# Altium footprint library PCB_LIB.PcbLib: 86 footprints (part 4 of 6)
Each footprint in its own frame and in the unit in brackets; x right, y up, seen from the top. Pads: shape width x height; smd on the part's side, far side on the other; paste and mask are expansions set on the pad; w line width, h text height; cw(c..) or ccw(c..) is an arc to the next point about the centre after c.
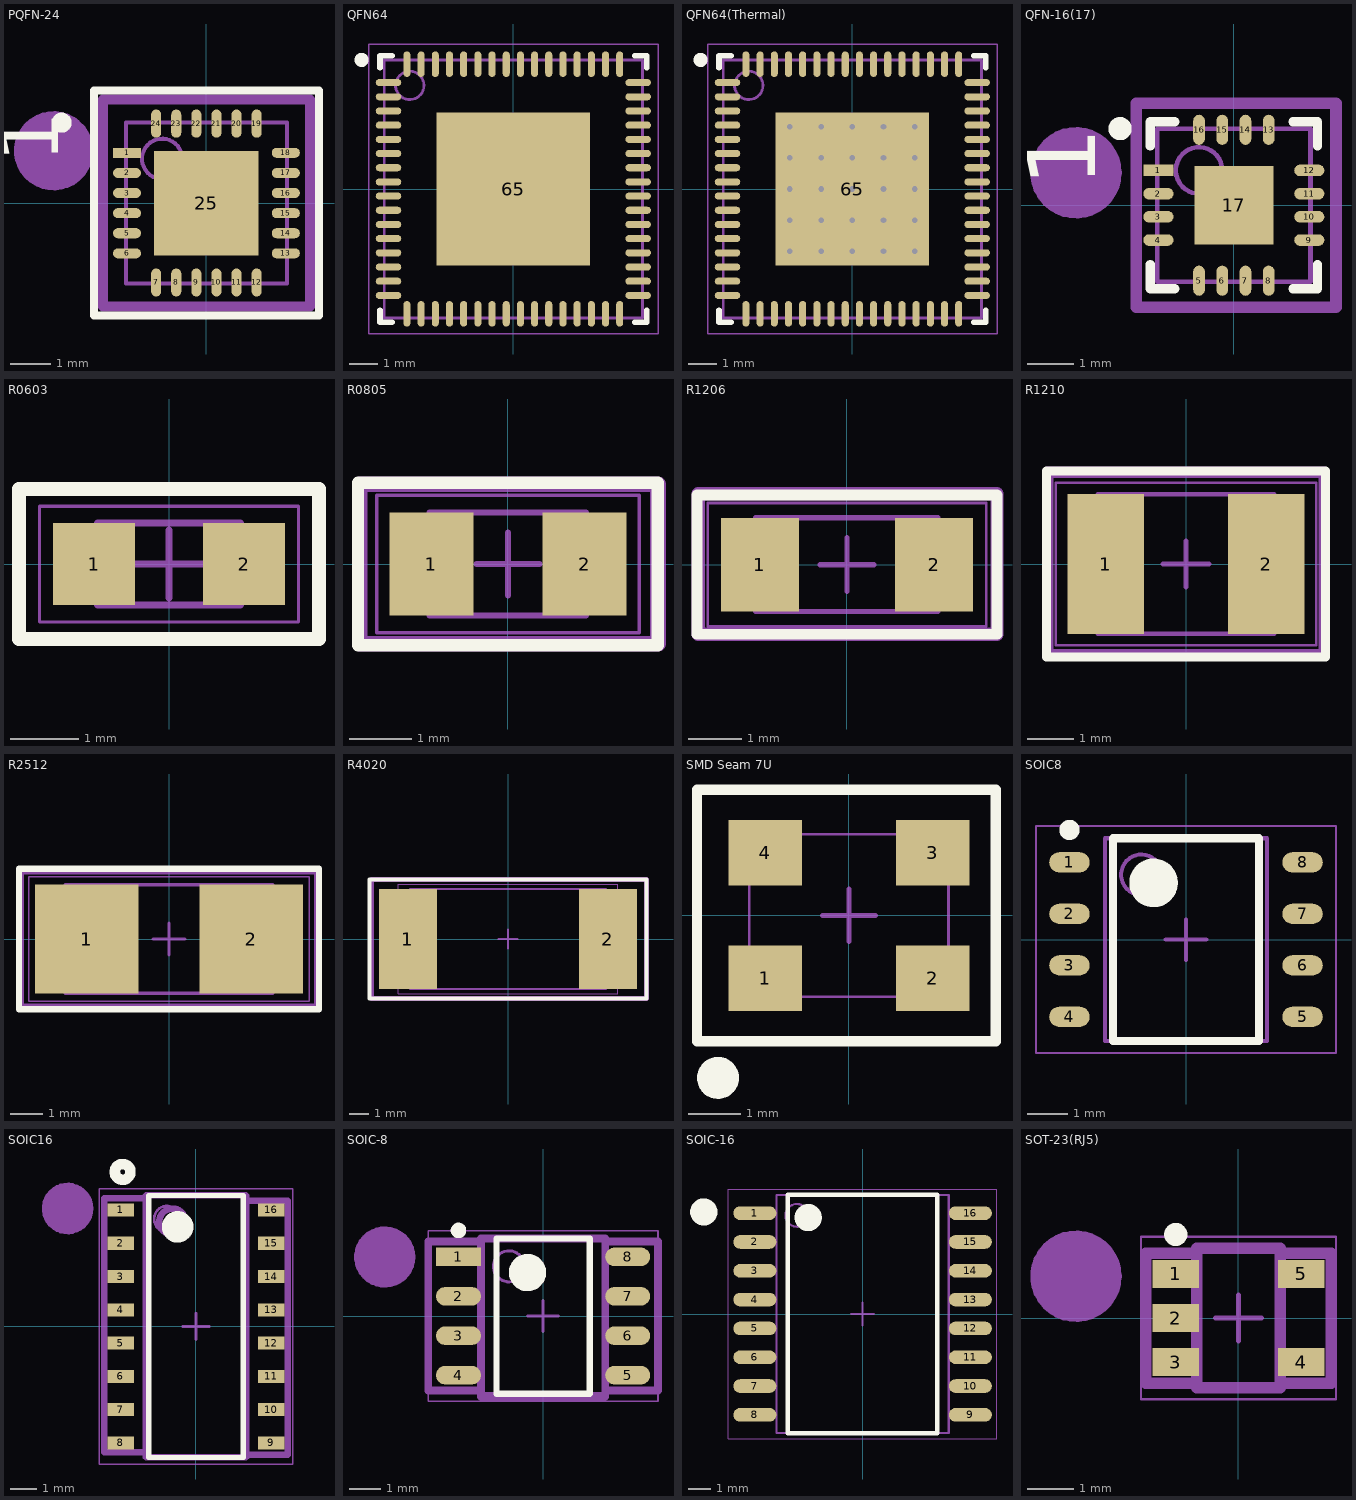
[diagram p3: the footprints below, top view; thin cyan lines are the x and y axes]

## PQFN-24 [mm] "QFN, 24-Leads, Body 4,00x4,00mm, Pitch 0,50mm, Thermal Pad 2,60x2,60mm, IPC Medium Density"
height 1
pads (25):
  rect 0.7x0.25 smd: 1(-1.975,1.25)
  oval 0.7x0.25 smd: 2(-1.975,0.75) 3(-1.975,0.25) 4(-1.975,-0.25) 5(-1.975,-0.75) 6(-1.975,-1.25) 13(1.975,-1.25) 14(1.975,-0.75) 15(1.975,-0.25) 16(1.975,0.25) 17(1.975,0.75) 18(1.975,1.25)
  oval 0.25x0.7 smd: 7(-1.25,-1.975) 8(-0.75,-1.975) 9(-0.25,-1.975) 10(0.25,-1.975) 11(0.75,-1.975) 12(1.25,-1.975) 19(1.25,1.975) 20(0.75,1.975) 21(0.25,1.975) 22(-0.25,1.975) 23(-0.75,1.975) 24(-1.25,1.975)
  rect 2.6x2.6 smd: 25(0,0)
Top Overlay:
  circle w0.25: c-3.6,2 r0.125
  lines w0.2: -2.8,-2.8 -2.8,2.8 2.8,2.8 2.8,-2.8 -2.8,-2.8
  text "1" at -3.2,1 h2.5
Top Sborka:
  circle w0.25: c-3.8,1.3 r0.704
  circle w0.25: c-3.8,1.3 r0.292
  circle w0.25: c-3.8,1.3 r0.861
  circle w0.25: c-3.8,1.3 r0.506
  circle w0.25: c-3.8,1.3 r0.09
  circle w0.6: c-3.8,1.3 r0.3
  circle w0.8: c-3.8,1.3 r0.4
  lines w0.25: -2.575,-2.575 2.575,-2.575 2.575,2.575 -2.575,2.575 -2.575,-2.575
Mechanical 13:
  circle w0.1: c-1.1,1.1 r0.5
  lines w0.1: -2,-2 -2,2 2,2 2,-2 -2,-2
Mechanical 15:
  lines w0.05: -2.575,-2.575 -2.575,2.575 2.575,2.575 2.575,-2.575 -2.575,-2.575
  lines w0.1: -0.5,0 0.5,0 ; 0,-0.5 0,0.5
Top Designator (Mech16):
  text ".Designator" at -5.15,-0.547 h2.5
3D body "PQFN-24.step": height 1, standoff 0, extent -2,-2 2,2

## QFN64 [mm] "QFN, 64-Leads, Body 9,00x9,00mm, Pitch 0,50mm, Thermal Pad 5,40x5,40mm, IPC Medium Density"
height 1
pads (65):
  oval 0.9x0.25 smd: 1(-4.4,3.75) 2(-4.4,3.25) 3(-4.4,2.75) 4(-4.4,2.25) 5(-4.4,1.75) 6(-4.4,1.25) 7(-4.4,0.75) 8(-4.4,0.25) 9(-4.4,-0.25) 10(-4.4,-0.75) 11(-4.4,-1.25) 12(-4.4,-1.75) 13(-4.4,-2.25) 14(-4.4,-2.75) 15(-4.4,-3.25) 16(-4.4,-3.75) 33(4.4,-3.75) 34(4.4,-3.25) 35(4.4,-2.75) 36(4.4,-2.25) 37(4.4,-1.75) 38(4.4,-1.25) 39(4.4,-0.75) 40(4.4,-0.25) 41(4.4,0.25) 42(4.4,0.75) 43(4.4,1.25) 44(4.4,1.75) 45(4.4,2.25) 46(4.4,2.75) 47(4.4,3.25) 48(4.4,3.75)
  oval 0.25x0.9 smd: 17(-3.75,-4.4) 18(-3.25,-4.4) 19(-2.75,-4.4) 20(-2.25,-4.4) 21(-1.75,-4.4) 22(-1.25,-4.4) 23(-0.75,-4.4) 24(-0.25,-4.4) 25(0.25,-4.4) 26(0.75,-4.4) 27(1.25,-4.4) 28(1.75,-4.4) 29(2.25,-4.4) 30(2.75,-4.4) 31(3.25,-4.4) 32(3.75,-4.4) 49(3.75,4.4) 50(3.25,4.4) 51(2.75,4.4) 52(2.25,4.4) 53(1.75,4.4) 54(1.25,4.4) 55(0.75,4.4) 56(0.25,4.4) 57(-0.25,4.4) 58(-0.75,4.4) 59(-1.25,4.4) 60(-1.75,4.4) 61(-2.25,4.4) 62(-2.75,4.4) 63(-3.25,4.4) 64(-3.75,4.4)
  rect 5.4x5.4 smd: 65(0,0)
Top Overlay:
  circle w0.25: c-5.35,4.55 r0.125
  lines w0.2: -4.7,-4.275 -4.7,-4.7 -4.275,-4.7 ; -4.7,4.275 -4.7,4.7 -4.275,4.7 ; 4.275,-4.7 4.7,-4.7 4.7,-4.275 ; 4.275,4.7 4.7,4.7 4.7,4.275
Top Sborka:
  circle w0.1: c-3.65,3.65 r0.5
  lines w0.1: -4.55,-4.55 4.55,-4.55 4.55,4.55 -4.55,4.55 -4.55,-4.55
Mechanical 15:
  lines w0.05: -5.1,-5.1 5.1,-5.1 5.1,5.1 -5.1,5.1 -5.1,-5.1
  lines w0.1: -0.5,0 0.5,0 ; 0,-0.5 0,0.5
3D body "QFN64.step": height 1, standoff 0, extent -4.57,-4.57 4.57,4.57

## QFN64(Thermal) [mm] "QFN, 64-Leads, Body 9,00x9,00mm, Pitch 0,50mm, Thermal Pad 5,40x5,40mm, IPC Medium Density"
height 1
pads (65):
  oval 0.9x0.25 smd: 1(-4.4,3.75) 2(-4.4,3.25) 3(-4.4,2.75) 4(-4.4,2.25) 5(-4.4,1.75) 6(-4.4,1.25) 7(-4.4,0.75) 8(-4.4,0.25) 9(-4.4,-0.25) 10(-4.4,-0.75) 11(-4.4,-1.25) 12(-4.4,-1.75) 13(-4.4,-2.25) 14(-4.4,-2.75) 15(-4.4,-3.25) 16(-4.4,-3.75) 33(4.4,-3.75) 34(4.4,-3.25) 35(4.4,-2.75) 36(4.4,-2.25) 37(4.4,-1.75) 38(4.4,-1.25) 39(4.4,-0.75) 40(4.4,-0.25) 41(4.4,0.25) 42(4.4,0.75) 43(4.4,1.25) 44(4.4,1.75) 45(4.4,2.25) 46(4.4,2.75) 47(4.4,3.25) 48(4.4,3.75)
  oval 0.25x0.9 smd: 17(-3.75,-4.4) 18(-3.25,-4.4) 19(-2.75,-4.4) 20(-2.25,-4.4) 21(-1.75,-4.4) 22(-1.25,-4.4) 23(-0.75,-4.4) 24(-0.25,-4.4) 25(0.25,-4.4) 26(0.75,-4.4) 27(1.25,-4.4) 28(1.75,-4.4) 29(2.25,-4.4) 30(2.75,-4.4) 31(3.25,-4.4) 32(3.75,-4.4) 49(3.75,4.4) 50(3.25,4.4) 51(2.75,4.4) 52(2.25,4.4) 53(1.75,4.4) 54(1.25,4.4) 55(0.75,4.4) 56(0.25,4.4) 57(-0.25,4.4) 58(-0.75,4.4) 59(-1.25,4.4) 60(-1.75,4.4) 61(-2.25,4.4) 62(-2.75,4.4) 63(-3.25,4.4) 64(-3.75,4.4)
  rect 5.4x5.4 smd: 65(0,0)
via 2.2,-2.2 diameter 0.5 hole 0.2
via 1.1,-2.2 diameter 0.5 hole 0.2
via 0,-2.2 diameter 0.5 hole 0.2
via -1.1,-2.2 diameter 0.5 hole 0.2
via -2.2,-2.2 diameter 0.5 hole 0.2
via 2.2,-1.1 diameter 0.5 hole 0.2
via 1.1,-1.1 diameter 0.5 hole 0.2
via 0,-1.1 diameter 0.5 hole 0.2
via -1.1,-1.1 diameter 0.5 hole 0.2
via -2.2,-1.1 diameter 0.5 hole 0.2
via 2.2,0 diameter 0.5 hole 0.2
via 1.1,0 diameter 0.5 hole 0.2
via 0,0 diameter 0.5 hole 0.2
via -1.1,0 diameter 0.5 hole 0.2
via -2.2,0 diameter 0.5 hole 0.2
via 2.2,1.1 diameter 0.5 hole 0.2
via 1.1,1.1 diameter 0.5 hole 0.2
via 0,1.1 diameter 0.5 hole 0.2
via -1.1,1.1 diameter 0.5 hole 0.2
via -2.2,1.1 diameter 0.5 hole 0.2
via 2.2,2.2 diameter 0.5 hole 0.2
via 1.1,2.2 diameter 0.5 hole 0.2
via 0,2.2 diameter 0.5 hole 0.2
via -1.1,2.2 diameter 0.5 hole 0.2
via -2.2,2.2 diameter 0.5 hole 0.2
Top Overlay:
  circle w0.25: c-5.35,4.55 r0.125
  lines w0.2: -4.7,-4.275 -4.7,-4.7 -4.275,-4.7 ; -4.7,4.275 -4.7,4.7 -4.275,4.7 ; 4.275,-4.7 4.7,-4.7 4.7,-4.275 ; 4.275,4.7 4.7,4.7 4.7,4.275
Top Sborka:
  circle w0.1: c-3.65,3.65 r0.5
  lines w0.1: -4.55,-4.55 4.55,-4.55 4.55,4.55 -4.55,4.55 -4.55,-4.55
Mechanical 15:
  lines w0.05: -5.1,-5.1 5.1,-5.1 5.1,5.1 -5.1,5.1 -5.1,-5.1
  lines w0.1: -0.5,0 0.5,0 ; 0,-0.5 0,0.5
3D body "QFN64.step": height 1, standoff 0, extent -4.57,-4.57 4.57,4.57

## QFN-16(17) [mm] "QFN, 16-Leads, Body 3,20x3,20mm, Pitch 0,50mm, Thermal Pad 1,70x1,70mm, IPC Medium Density"
height 1.25
pads (17):
  rect 0.65x0.25 smd: 1(-1.625,0.75)
  oval 0.65x0.25 smd: 2(-1.625,0.25) 3(-1.625,-0.25) 4(-1.625,-0.75) 9(1.625,-0.75) 10(1.625,-0.25) 11(1.625,0.25) 12(1.625,0.75)
  oval 0.25x0.65 smd: 5(-0.75,-1.625) 6(-0.25,-1.625) 7(0.25,-1.625) 8(0.75,-1.625) 13(0.75,1.625) 14(0.25,1.625) 15(-0.25,1.625) 16(-0.75,1.625)
  rect 1.7x1.7 smd: 17(0,0)
Top Overlay:
  circle w0.25: c-2.45,1.65 r0.125
  lines w0.2: -1.8,-1.275 -1.8,-1.8 -1.275,-1.8 ; -1.8,1.275 -1.8,1.8 -1.275,1.8 ; 1.275,-1.8 1.8,-1.8 1.8,-1.275 ; 1.275,1.8 1.8,1.8 1.8,1.275
  text "1" at -2.5,0.4 h2.5
Top Sborka:
  circle w0.25: c-3.4,0.7 r0.704
  circle w0.25: c-3.4,0.7 r0.292
  circle w0.25: c-3.4,0.7 r0.861
  circle w0.25: c-3.4,0.7 r0.506
  circle w0.25: c-3.4,0.7 r0.09
  circle w0.6: c-3.4,0.7 r0.3
  circle w0.8: c-3.4,0.7 r0.4
  lines w0.25: -2.1,-2.2 2.2,-2.2 2.2,2.2 -2.1,2.2 -2.1,-2.2
Mechanical 13:
  circle w0.1: c-0.75,0.75 r0.5
  lines w0.1: -1.65,-1.65 1.65,-1.65 1.65,1.65 -1.65,1.65 -1.65,-1.65
Mechanical 15:
  lines w0.05: -2.2,-2.2 2.2,-2.2 2.2,2.2 -2.2,2.2 -2.2,-2.2
  lines w0.1: -0.5,0 0.5,0 ; 0,-0.5 0,0.5
Top Designator (Mech16):
  text ".Designator" at -6.18,-0.547 h2.5
3D body "QFN-16(17).step": height 1.25, standoff 0, extent -1.651,-1.651 1.651,1.651

## R0603 [mm] "Chip Resistor, 2-Leads, Body 1,60x0,80mm, IPC Medium Density"
height 0.55
pads (2):
  rect 1.2x1.2 smd: 1(-1.1,0) 2(1.1,0)
Top Overlay:
  lines w0.2: -2.2,-1.1 2.2,-1.1 2.2,1.1 -2.2,1.1 -2.2,-1.1
Top Sborka:
  lines w0.1: -2.2,-1.1 2.2,-1.1 2.2,1.1 -2.2,1.1 -2.2,-1.1
Mechanical 13:
  lines w0.1: -1.05,-0.6 -1.05,0.6 1.05,0.6 1.05,-0.6 -1.05,-0.6
Mechanical 15:
  lines w0.05: -1.9,-0.85 1.9,-0.85 1.9,0.85 -1.9,0.85 -1.9,-0.85
  lines w0.1: -0.5,0 0.5,0 ; 0,-0.5 0,0.5
Top Designator (Mech16):
  text ".Designator" at -5.15,-0.547 h2.5
3D body "C0603.step": height 0.8, standoff 0, extent -1.05,-0.6 1.05,0.6

## R0805 [mm]
height 0.6
pads (2):
  rect 1.35x1.65 smd: 1(-1.225,0) 2(1.225,0)
Top Overlay:
  lines w0.2: -2.4,-1.3 2.4,-1.3 2.4,1.3 -2.4,1.3 -2.4,-1.3
Top Sborka:
  lines w0.25: -2.375,-1.275 2.4,-1.275 2.4,1.275 -2.375,1.275 -2.375,-1.275
Mechanical 13:
  lines w0.1: -1.25,-0.825 1.25,-0.825 1.25,0.825 -1.25,0.825 -1.25,-0.825
Mechanical 15:
  lines w0.05: -2.1,-1.1 -2.1,1.1 2.1,1.1 2.1,-1.1 -2.1,-1.1
  lines w0.1: -0.5,0 0.5,0 ; 0,-0.5 0,0.5
Top Designator (Mech16):
  text ".Designator" at -5.15,-0.547 h2.5
3D body "C0805.step": height 1, standoff 0, extent -1.25,-0.825 1.25,0.825

## R1206 [mm]
height 0.8
pads (2):
  rect 1.45x1.75 smd: 1(-1.625,0) 2(1.625,0)
Top Overlay:
  lines w0.2: -2.8,-1.3 2.8,-1.3 2.8,1.3 -2.8,1.3 -2.8,-1.3
Top Sborka:
  lines w0.25: -2.775,-1.3 2.8,-1.3 2.8,1.325 -2.775,1.325 -2.775,-1.3
Mechanical 13:
  lines w0.1: -1.7,-0.875 1.7,-0.875 1.7,0.875 -1.7,0.875 -1.7,-0.875
Mechanical 15:
  lines w0.05: -2.6,-1.15 -2.6,1.15 2.6,1.15 2.6,-1.15 -2.6,-1.15
  lines w0.1: -0.5,0 0.5,0 ; 0,-0.5 0,0.5
Top Designator (Mech16):
  text ".Designator" at -5.15,-0.547 h2.5
3D body: height 0.8, standoff 0, extent 1.3,-0.875 1.7,0.875
3D body: height 0.8, standoff 0, extent -1.7,-0.875 -1.3,0.875
3D body: height 0.8, standoff 0, extent -1.3,-0.875 1.3,0.875

## R1210 [mm]
height 0.8
pads (2):
  rect 1.65x3 smd: 1(-1.725,0) 2(1.725,0)
Top Overlay:
  lines w0.2: -3,-2 3,-2 3,2 -3,2 -3,-2
Top Sborka:
  lines w0.25: -2.975,-1.95 2.975,-1.95 2.975,1.975 -2.975,1.975 -2.975,-1.95
Mechanical 13:
  lines w0.1: -1.9,-1.5 1.9,-1.5 1.9,1.5 -1.9,1.5 -1.9,-1.5
Mechanical 15:
  lines w0.05: -2.8,-1.75 2.8,-1.75 2.8,1.75 -2.8,1.75 -2.8,-1.75
  lines w0.1: -0.5,0 0.5,0 ; 0,-0.5 0,0.5
Top Designator (Mech16):
  text ".Designator" at -5.15,-0.547 h2.5
3D body "C1210.step": height 1.75, standoff 0, extent -1.9,-1.5 1.9,1.5

## R2512 [mm]
height 0.85
pads (2):
  rect 3.25x3.4 smd: 1(-2.575,0) 2(2.575,0)
Top Overlay:
  lines w0.2: -4.7,-2.2 4.7,-2.2 4.7,2.2 -4.7,2.2 -4.7,-2.2
Top Sborka:
  lines w0.25: -4.675,-2.15 4.675,-2.15 4.675,2.15 -4.675,2.15 -4.675,-2.15
Mechanical 13:
  lines w0.1: -3.25,-1.7 -3.25,1.7 3.25,1.7 3.25,-1.7 -3.25,-1.7
Mechanical 15:
  lines w0.05: -4.4,-1.95 -4.4,1.95 4.4,1.95 4.4,-1.95 -4.4,-1.95
  lines w0.1: -0.5,0 0.5,0 ; 0,-0.5 0,0.5
Top Designator (Mech16):
  text ".Designator" at -5.15,-0.547 h2.5
3D body "R2512.step": height 0.85, standoff 0, extent -3.25,-1.7 3.25,1.7

## R4020 [mm] "Chip Resistor, 2-Leads, Body 10,00x5,00mm, IPC Medium Density"
height 0.8
pads (2):
  rect 3x5.2 smd: 1(-5.2,0) 2(5.2,0)
Top Overlay:
  lines w0.2: -7.2,-3.1 7.2,-3.1 7.2,3.1 -7.2,3.1 -7.2,-3.1
Top Sborka:
  lines w0.25: -7.1,-3.1 7.2,-3.1 7.2,3.1 -7.1,3.1 -7.1,-3.1
Mechanical 13:
  lines w0.1: -5.1,-2.6 5.1,-2.6 5.1,2.6 -5.1,2.6 -5.1,-2.6
Mechanical 15:
  lines w0.05: -5.7,-2.85 5.7,-2.85 5.7,2.85 -5.7,2.85 -5.7,-2.85
  lines w0.1: -0.5,0 0.5,0 ; 0,-0.5 0,0.5
Top Designator (Mech16):
  text ".Designator" at -5.137,-0.547 h2.5
3D body "R4020.step": height 0.8, standoff 0, extent -5.1,-2.6 5.1,2.6

## SMD Seam 7U [mm] "DFN, 4-Leads, Body 2,50x3,20mm, Pitch 2,50mm, IPC Medium Density"
height 0.8
pads (4):
  rect 1.4x1.25 smd: 1(-1.6,-1.2) 2(1.6,-1.2) 3(1.6,1.2) 4(-1.6,1.2)
Top Overlay:
  circle w0.4: c-2.5,-3.1 r0.2
  lines w0.2: -2.9,-2.4 2.8,-2.4 2.8,2.4 -2.9,2.4 -2.9,-2.4
Top Sborka:
  lines w0.1: -2.9,-2.4 2.825,-2.4 2.825,2.4 -2.9,2.4 -2.9,-2.4
Mechanical 15:
  lines w0.05: -1.9,-1.55 1.9,-1.55 1.9,1.55 -1.9,1.55 -1.9,-1.55
  lines w0.1: -0.5,0 0.5,0 ; 0,-0.5 0,0.5
Top Designator (Mech16):
  text ".Designator" at -5.15,-0.547 h2.5
3D body "KSE-7U16000MAB143ZA3.stp": height 0.8, standoff 0, extent -1.6,-1.25 1.6,1.25

## SOIC8 [mm] "SOIC, 8-Leads, Body 4,88x3,91mm, Pitch 1,27mm, IPC Medium Density"
height 3.18
pads (8):
  oval 1x0.5 smd: 1(-2.875,1.905) 2(-2.875,0.635) 3(-2.875,-0.635) 4(-2.875,-1.905) 5(2.875,-1.905) 6(2.875,-0.635) 7(2.875,0.635) 8(2.875,1.905)
Top Overlay:
  circle w0.25: c-2.875,2.705 r0.125
  circle w0.6: c-0.8,1.4 r0.3
  lines w0.2: -1.8,-2.5 -1.8,2.5 1.8,2.5 1.8,-2.5 -1.8,-2.5
Mechanical 13:
  circle w0.1: c-1.1,1.6 r0.5
  lines w0.1: -2,-2.5 -2,2.5 2,2.5 2,-2.5 -2,-2.5
Mechanical 15:
  lines w0.05: -3.7,-2.8 -3.7,2.8 3.7,2.8 3.7,-2.8 -3.7,-2.8
  lines w0.1: -0.5,0 0.5,0 ; 0,-0.5 0,0.5
Top Designator (Mech16):
  text ".Designator" at -5.15,-0.482 h2.5
3D body "SOIC8.step": height 3.18, standoff 0, extent -3,-2.5 3,2.5

## SOIC16 [mm] "SOIC, 16-Leads, Body 9,90x3,90mm, Pitch 1,27mm, IPC Medium Density"
height 1.75
pads (16):
  rect 1x0.5 smd: 1(-2.875,4.445) 2(-2.875,3.175) 3(-2.875,1.905) 4(-2.875,0.635) 5(-2.875,-0.635) 6(-2.875,-1.905) 7(-2.875,-3.175) 8(-2.875,-4.445) 9(2.875,-4.445) 10(2.875,-3.175) 11(2.875,-1.905) 12(2.875,-0.635) 13(2.875,0.635) 14(2.875,1.905) 15(2.875,3.175) 16(2.875,4.445)
Top Overlay:
  circle w0.4: c-2.8,5.9 r0.3
  circle w0.6: c-0.7,3.8 r0.3
  lines w0.2: -1.8,-5 -1.8,5 1.8,5 1.8,-5 -1.8,-5
Top Sborka:
  circle w0.8: c-4.9,4.5 r0.4
  circle w0.25: c-0.9,4 r0.5
  circle w0.6: c-4.9,4.5 r0.3
  circle w0.25: c-4.9,4.5 r0.09
  circle w0.25: c-4.9,4.5 r0.506
  circle w0.25: c-4.9,4.5 r0.861
  circle w0.25: c-4.9,4.5 r0.292
  circle w0.25: c-4.9,4.5 r0.704
  lines w0.25: -3.5,-4.8 -1.9,-4.8 -1.9,4.9 -3.5,4.9 -3.5,-4.8 ; -1.9,-5 1.9,-5 1.9,5 -1.9,5 -1.9,-5 ; 1.9,-4.9 3.5,-4.9 3.5,4.8 1.9,4.8 1.9,-4.9
Mechanical 13:
  circle w0.1: c-1.1,4.1 r0.5
  lines w0.1: -2,-5 -2,5 2,5 2,-5 -2,-5
Mechanical 15:
  lines w0.05: -3.7,-5.25 -3.7,5.25 3.7,5.25 3.7,-5.25 -3.7,-5.25
  lines w0.1: -0.5,0 0.5,0 ; 0,-0.5 0,0.5
Top Designator (Mech16):
  text ".Designator" at -5.15,-0.547 h2.5
3D body "SOIC16.step": height 1.75, standoff 0, extent -2.9,-5 2.9,5

## SOIC-8 [mm] "SOIC, 8-Leads, Body 4,90x3,90mm, Pitch 1,27mm, IPC Medium Density"
height 1.75
pads (8):
  rect 1.45x0.6 smd: 1(-2.725,1.905)
  oval 1.45x0.6 smd: 2(-2.725,0.635) 3(-2.725,-0.635) 4(-2.725,-1.905) 5(2.725,-1.905) 6(2.725,-0.635) 7(2.725,0.635) 8(2.725,1.905)
Top Overlay:
  circle w0.6: c-0.5,1.4 r0.3
  circle w0.25: c-2.725,2.755 r0.125
  lines w0.2: -1.5,-2.5 1.5,-2.5 1.5,2.5 -1.5,2.5 -1.5,-2.5
Top Sborka:
  circle w0.8: c-5.1,1.9 r0.4
  circle w0.6: c-5.1,1.9 r0.3
  circle w0.25: c-5.1,1.9 r0.09
  circle w0.25: c-5.1,1.9 r0.506
  circle w0.25: c-5.1,1.9 r0.861
  circle w0.25: c-5.1,1.9 r0.292
  circle w0.25: c-5.1,1.9 r0.704
  lines w0.25: -3.7,-2.4 -2,-2.4 -2,2.4 -3.7,2.4 -3.7,-2.4 ; -2,-2.6 2,-2.6 2,2.5 -2,2.5 -2,-2.6 ; 2,-2.4 3.7,-2.4 3.7,2.4 2,2.4 2,-2.4
Mechanical 13:
  circle w0.1: c-1.1,1.6 r0.5
  lines w0.1: -2,-2.5 2,-2.5 2,2.5 -2,2.5 -2,-2.5
Mechanical 15:
  lines w0.05: -3.7,-2.75 3.7,-2.75 3.7,2.75 -3.7,2.75 -3.7,-2.75
  lines w0.1: -0.5,0 0.5,0 ; 0,-0.5 0,0.5
Top Designator (Mech16):
  text ".Designator" at -5.15,-0.547 h2.5
3D body "SOIC-8.step": height 1.75, standoff 0, extent -3,-2.5 3,2.5

## SOIC-16 [mm] "SOIC, 16-Leads, Body 10,30x7,50mm, Pitch 1,27mm, IPC Medium Density"
height 2.65
pads (16):
  oval 1.9x0.6 smd: 1(-4.75,4.445) 2(-4.75,3.175) 3(-4.75,1.905) 4(-4.75,0.635) 5(-4.75,-0.635) 6(-4.75,-1.905) 7(-4.75,-3.175) 8(-4.75,-4.445) 9(4.75,-4.445) 10(4.75,-3.175) 11(4.75,-1.905) 12(4.75,-0.635) 13(4.75,0.635) 14(4.75,1.905) 15(4.75,3.175) 16(4.75,4.445)
Top Overlay:
  circle w0.6: c-7,4.5 r0.3
  circle w0.6: c-2.4,4.25 r0.3
  lines w0.2: -3.3,-5.25 3.3,-5.25 3.3,5.25 -3.3,5.25 -3.3,-5.25
Mechanical 13:
  circle w0.1: c-2.9,4.35 r0.5
  lines w0.1: -3.8,-5.25 3.8,-5.25 3.8,5.25 -3.8,5.25 -3.8,-5.25
Mechanical 15:
  lines w0.05: -5.925,-5.5 5.925,-5.5 5.925,5.5 -5.925,5.5 -5.925,-5.5
  lines w0.1: -0.5,0 0.5,0 ; 0,-0.5 0,0.5
Top Designator (Mech16):
  text ".Designator" at -5.15,-0.547 h2.5
3D body "SOIC-16.step": height 2.65, standoff 0, extent -5.162,-5.25 5.162,5.25

## SOT-23(RJ5) [mm] "SOT23, 5-Leads, Body 2,90x2,80mm, Pitch 0,95mm, IPC Medium Density"
height 1.45
pads (5):
  rect 1x0.6 smd: 1(-1.35,0.95) 2(-1.35,0) 3(-1.35,-0.95) 4(1.35,-0.95) 5(1.35,0.95)
Top Overlay:
  circle w0.25: c-1.35,1.8 r0.125
Top Sborka:
  circle w0.6: c-3.5,0.9 r0.3
  circle w0.8: c-3.5,0.9 r0.4
  circle w0.25: c-3.5,0.9 r0.09
  circle w0.25: c-3.5,0.9 r0.506
  circle w0.25: c-3.5,0.9 r0.861
  circle w0.25: c-3.5,0.9 r0.292
  circle w0.25: c-3.5,0.9 r0.704
  lines w0.25: -2,-1.4 -0.9,-1.4 -0.9,1.4 -2,1.4 -2,-1.4 ; -0.9,-1.5 0.9,-1.5 0.9,1.5 -0.9,1.5 -0.9,-1.5 ; 0.9,-1.4 2,-1.4 2,1.4 0.9,1.4 0.9,-1.4
Mechanical 13:
  lines w0.1: -0.85,-1.5 -0.85,1.5 0.85,1.5 0.85,-1.5 -0.85,-1.5
Mechanical 15:
  lines w0.05: -2.1,-1.75 -2.1,1.75 2.1,1.75 2.1,-1.75 -2.1,-1.75
  lines w0.1: -0.5,0 0.5,0 ; 0,-0.5 0,0.5
Top Designator (Mech16):
  text ".Designator" at -5.15,-0.547 h2.5
3D body "SOT-23(RJ5).step": height 1.45, standoff 0, extent -1.5,-1.5 1.5,1.5